# Altium footprint library PcbLib1.PcbLib: 19 footprints (part 1 of 2)
Each footprint in its own frame and in the unit in brackets; x right, y up, seen from the top. Pads: shape width x height; smd on the part's side, far side on the other; paste and mask are expansions set on the pad; w line width, h text height; cw(c..) or ccw(c..) is an arc to the next point about the centre after c.
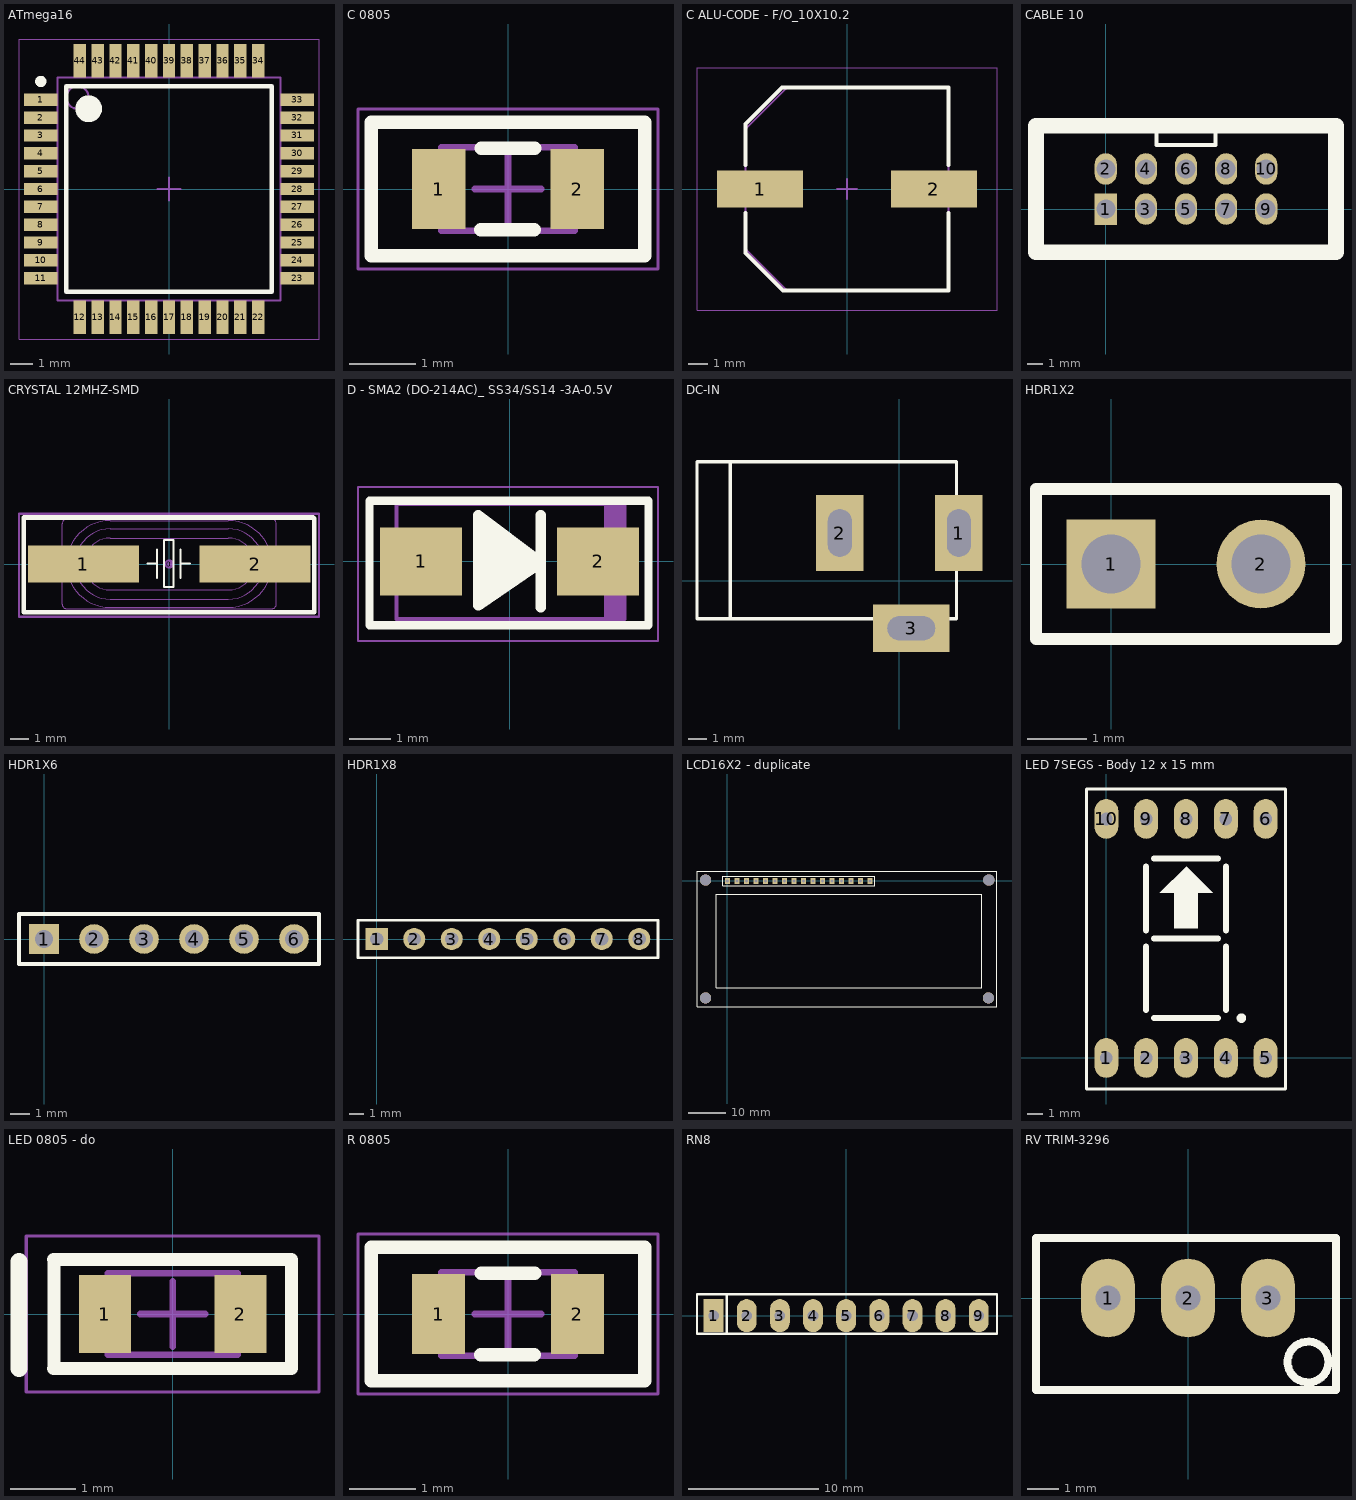
[diagram p0: the footprints below, top view; thin cyan lines are the x and y axes]

## ATmega16 [mm] "TQFP, 44-Leads, Body 10.00x10.00mm, Pitch 0.80mm, IPC Medium Density"
height 1.2
pads (44):
  rect 1.5x0.55 smd: 1(-5.75,4) 2(-5.75,3.2) 3(-5.75,2.4) 4(-5.75,1.6) 5(-5.75,0.8) 6(-5.75,0) 7(-5.75,-0.8) 8(-5.75,-1.6) 9(-5.75,-2.4) 10(-5.75,-3.2) 11(-5.75,-4) 23(5.75,-4) 24(5.75,-3.2) 25(5.75,-2.4) 26(5.75,-1.6) 27(5.75,-0.8) 28(5.75,0) 29(5.75,0.8) 30(5.75,1.6) 31(5.75,2.4) 32(5.75,3.2) 33(5.75,4)
  rect 0.55x1.5 smd: 12(-4,-5.75) 13(-3.2,-5.75) 14(-2.4,-5.75) 15(-1.6,-5.75) 16(-0.8,-5.75) 17(0,-5.75) 18(0.8,-5.75) 19(1.6,-5.75) 20(2.4,-5.75) 21(3.2,-5.75) 22(4,-5.75) 34(4,5.75) 35(3.2,5.75) 36(2.4,5.75) 37(1.6,5.75) 38(0.8,5.75) 39(0,5.75) 40(-0.8,5.75) 41(-1.6,5.75) 42(-2.4,5.75) 43(-3.2,5.75) 44(-4,5.75)
Top Overlay:
  circle w0.25: c-5.75,4.825 r0.125
  circle w0.6: c-3.6,3.6 r0.3
  lines w0.2: -4.6,-4.6 -4.6,4.6 4.6,4.6 4.6,-4.6 -4.6,-4.6
Mechanical 13:
  circle w0.1: c-4.1,4.1 r0.5
  lines w0.1: -5,-5 -5,5 5,5 5,-5 -5,-5
Mechanical 15:
  lines w0.05: -6.725,-6.725 -6.725,6.725 6.725,6.725 6.725,-6.725 -6.725,-6.725
  lines w0.1: -0.5,0 0.5,0 ; 0,-0.5 0,0.5
3D body "TQFP80P1200X1200X120-44N.step": height 1.2, standoff 0, extent -6,-6 6,6

## C 0805 [mm]
pads (2):
  rect 0.8x1.2 smd: 1(-1.041,0) 2(1.041,0)
Top Overlay:
  lines w0.2: -0.406,-0.61 0.394,-0.61 ; -0.4,0.61 0.4,0.61 ; -2.05,-1 2.05,-1 2.05,1 -2.05,1 -2.05,0 -2.05,-1
Mechanical 13:
  lines w0.1: -1,-0.625 1,-0.625 1,0.625 -1,0.625 -1,-0.625
Mechanical 15:
  lines w0.05: -2.25,-1.2 2.25,-1.2 2.25,1.2 -2.25,1.2 -2.25,-1.2
  lines w0.1: -0.5,0 0.5,0 ; 0,-0.5 0,0.5
3D body "C0805.STEP": height 0.5, standoff 0, extent -1,-0.61 1,0.59

## C ALU-CODE - F/O_10X10.2 [mm]
pads (2):
  rect 4.35x1.85 smd: 1(-4.4,0) 2(4.4,0)
Top Overlay:
  lines w0.2: -5.15,-1.225 -5.15,-3.232 -3.232,-5.15 5.15,-5.15 5.15,-1.225 ; -5.15,1.225 -5.15,3.283 -3.283,5.15 5.15,5.15 5.15,1.225
Mechanical 13:
  lines w0.1: -5.15,-3.037 -5.15,3.037 -3.037,5.15 5.15,5.15 5.15,-5.15 -3.037,-5.15 -5.15,-3.037
Mechanical 15:
  lines w0.05: -7.6,-6.15 7.6,-6.15 7.6,6.15 -7.6,6.15 -7.6,-6.15
  lines w0.1: -0.5,0 0.5,0 ; 0,-0.5 0,0.5
3D body "User Library-SMD Polymer Aluminum Electrolytic Capacitors F12 560uF 10V.STEP": height 11.1, standoff -0.05, extent -5.5,-5.15 5.5,5.15

## CABLE 10 [mm]
pads (10):
  rect 1.4x2 hole 1.2: 1(0,0)
  oval 1.4x2 hole 1.2: 2(0,2.54) 3(2.54,0) 4(2.54,2.54) 5(5.08,0) 6(5.08,2.54) 7(7.62,0) 8(7.62,2.54) 9(10.16,0) 10(10.16,2.54)
Top Overlay:
  lines w0.254: 3.226,5.27 3.226,4.064 5.08,4.064 6.934,4.064 6.934,5.27
  lines w1: -4.42,-2.73 14.58,-2.73 14.58,5.27 -4.42,5.27 -4.42,-2.73
3D body "User Library-Tyco - 5103308-1 (Shrouded Header 2_54mm 10 Pin).step": height 9.86, standoff -3.05, extent -5.08,-3.302 15.24,5.842

## CRYSTAL 12MHZ-SMD [mm]
pads (3):
  round 0.508 on Mech15: 0(0,0)
  rect 6x2 smd: 1(-4.648,0) 2(4.648,0)
Top Overlay:
  lines w0.127: -1.168,0.025 -0.66,0.025 ; -0.66,-0.737 -0.66,0.787 ; 0.61,-0.737 0.61,0.787 ; 0.61,0.025 1.118,0.025 ; -0.279,-1.245 -0.279,1.295 0.229,1.295 0.229,-1.245 -0.279,-1.245
  lines w0.254: -7.874,-2.616 7.849,-2.616 7.849,2.464 7.798,2.515 -7.874,2.515 -7.874,-2.616
Mechanical 13:
  lines w0.05: -5.8,-0.45 -6.4,-0.45 -6.4,0.45 -5.8,0.45 ; 5.8,-0.45 6.4,-0.45 6.4,0.45 5.8,0.45 ; -5.8,-2.165 ccw(c-5.55,-2.165) -5.55,-2.415 5.55,-2.415 ccw(c5.55,-2.165) 5.8,-2.165 5.8,2.165 ccw(c5.55,2.165) 5.55,2.415 -5.55,2.415 ccw(c-5.55,2.165) -5.8,2.165 -5.8,-2.165 ; -3.2,-2.35 cw(c-3.2,0) -3.2,2.35 3.2,2.35 cw(c3.2,0) 3.2,-2.35 -3.2,-2.35 ; -3.2,-1.9 cw(c-3.2,0) -3.2,1.9 3.2,1.9 cw(c3.2,0) 3.2,-1.9 -3.2,-1.9 ; -3.2,-1.4 cw(c-3.2,0) -3.2,1.4 3.2,1.4 cw(c3.2,0) 3.2,-1.4 -3.2,-1.4
Mechanical 15:
  lines w0.127: -8.128,-2.845 -8.128,2.718 8.103,2.718 8.103,-2.845 -8.128,-2.845
3D body "User Library-Crystal HC49_US-SM.STEP": height 4.3, standoff 0, extent -6.425,-2.491 6.375,2.339

## D - SMA2 (DO-214AC)_ SS34/SS14 -3A-0.5V [mm]
pads (2):
  rect 2x1.65 smd: 1(-2.15,0) 2(2.15,0)
Top Overlay:
  lines w0.2: -3.404,-1.549 3.378,-1.549 3.378,1.473 -3.404,1.473 -3.404,-0.913 -3.404,-1.549
  lines w0.254: -0.635,0.737 0.457,-0.051 -0.584,-0.737 -0.559,0.533 0.178,-0.102 -0.457,-0.356 ; -0.356,0.305 -0.432,-0.584 -0.051,0.254 ; 0.762,-1.118 0.762,1.118 ; -0.762,-1.067 -0.711,-1.041 0.762,-0.025 -0.762,1.118 -0.762,-1.067
Mechanical 13:
  rectangle: 2.298,-1.403 2.769,1.397
  lines w0.1: -2.743,-1.4 -2.743,1.4 2.794,1.4 2.794,-1.4 -2.743,-1.4
Mechanical 15:
  lines w0.05: -3.683,-1.93 -3.683,1.803 3.607,1.803 3.607,-1.93 -3.683,-1.93
  lines w0.1: -0.5,0 0.5,0 ; 0,-0.5 0,0.5
3D body "User Library-DO-214AC.STEP": height 2.6, standoff 0.03, extent -2.75,-1.428 2.75,1.372

## DC-IN [mil]
pads (3):
  rect 100x160 hole 50 slot 100 at 90 deg: 1(125,100) 2(-125,100)
  rect 160x100 hole 50 slot 100 at 0 deg: 3(25,-100)
Top Overlay:
  lines w7: -355,-80 -355,250 ; -425,-80 -425,250 120,250 120,-80 -425,-80
3D body "SW3dPS-dc range - dc connector[4840.2201].STEP": height 433.67, standoff -137.2, extent -410.35,-105.12 134,269.12

## HDR1X2 [mm]
pads (2):
  rect 1.5x1.5 hole 1: 1(0,0)
  round 1.5 hole 1: 2(2.54,0)
Top Overlay:
  lines w0.2: -1.27,-1.27 -1.27,1.27 3.81,1.27 3.81,-1.27 -1.27,-1.27
3D body: height 1.5, standoff 0, extent 1.27,-1.27 3.81,1.27
3D body: height 7, standoff -1, extent 2.134,-0.406 2.93,0.392
3D body: height 7, standoff -1, extent -0.406,-0.406 0.39,0.392
3D body: height 1.5, standoff 0, extent -1.27,-1.27 1.27,1.27

## HDR1X6 [mm]
pads (6):
  rect 1.5x1.5 hole 0.9: 1(0,0)
  round 1.5 hole 0.9: 2(2.54,0) 3(5.08,0) 4(7.62,0) 5(10.16,0) 6(12.7,0)
Top Overlay:
  lines w0.2: -1.27,-1.27 13.97,-1.27 13.97,1.27 -1.27,1.27 -1.27,-1.27
3D body: height 7, standoff -1, extent 12.294,-0.406 13.09,0.392
3D body: height 1.5, standoff 0, extent 11.43,-1.27 13.97,1.27
3D body: height 7, standoff -1, extent -0.406,-0.406 0.39,0.392
3D body: height 1.5, standoff 0, extent -1.27,-1.27 1.27,1.27
3D body: height 7, standoff -1, extent 2.134,-0.406 2.93,0.392
3D body: height 1.5, standoff 0, extent 1.27,-1.27 3.81,1.27
3D body: height 7, standoff -1, extent 4.674,-0.406 5.47,0.392
3D body: height 1.5, standoff 0, extent 3.81,-1.27 6.35,1.27
3D body: height 7, standoff -1, extent 7.214,-0.406 8.01,0.392
3D body: height 1.5, standoff 0, extent 6.35,-1.27 8.89,1.27
3D body: height 7, standoff -1, extent 9.754,-0.406 10.55,0.392
3D body: height 1.5, standoff 0, extent 8.89,-1.27 11.43,1.27

## HDR1X8 [mm]
pads (8):
  rect 1.5x1.5 hole 0.9: 1(0,0)
  round 1.5 hole 0.9: 2(2.54,0) 3(5.08,0) 4(7.62,0) 5(10.16,0) 6(12.7,0) 7(15.24,0) 8(17.78,0)
Top Overlay:
  lines w0.2: -1.27,-1.27 19.05,-1.27 19.05,1.27 -1.27,1.27 -1.27,-1.27
3D body: height 1.5, standoff 0, extent 8.89,-1.27 11.43,1.27
3D body: height 7, standoff -1, extent 9.754,-0.406 10.55,0.392
3D body: height 1.5, standoff 0, extent 6.35,-1.27 8.89,1.27
3D body: height 7, standoff -1, extent 7.214,-0.406 8.01,0.392
3D body: height 1.5, standoff 0, extent 3.81,-1.27 6.35,1.27
3D body: height 7, standoff -1, extent 4.674,-0.406 5.47,0.392
3D body: height 1.5, standoff 0, extent 1.27,-1.27 3.81,1.27
3D body: height 7, standoff -1, extent 2.134,-0.406 2.93,0.392
3D body: height 1.5, standoff 0, extent -1.27,-1.27 1.27,1.27
3D body: height 7, standoff -1, extent -0.406,-0.406 0.39,0.392
3D body: height 1.5, standoff 0, extent 16.51,-1.27 19.05,1.27
3D body: height 7, standoff -1, extent 17.374,-0.406 18.17,0.392
3D body: height 1.5, standoff 0, extent 13.97,-1.27 16.51,1.27
3D body: height 7, standoff -1, extent 14.834,-0.406 15.63,0.392
3D body: height 1.5, standoff 0, extent 11.43,-1.27 13.97,1.27
3D body: height 7, standoff -1, extent 12.294,-0.406 13.09,0.392

## LCD16X2 - duplicate [mm]
pads (20):
  rect 1.3x1.6 hole 0.9: 1(0,0) 2(2.54,0) 3(5.08,0) 4(7.62,0) 5(10.16,0) 6(12.7,0) 7(15.24,0) 8(17.78,0) 9(20.32,0) 10(22.86,0) 11(25.4,0) 12(27.94,0) 13(30.48,0) 14(33.02,0) 15(35.56,0) 16(38.1,0)
  round 3 hole 3: ""(-5.842,-31.242) ""(69.723,-31.242)
  round 3 hole 3 paste+0 mask+0: ""(-5.842,0.254) ""(69.825,0.254)
Top Overlay:
  lines w0.2: -1.27,-1.27 39.37,-1.27 39.37,1.27 0.635,1.27 -1.27,1.27 -1.27,-1.27
  lines w0.254: 71.882,-33.528 -8.128,-33.528 -8.128,2.54 71.882,2.54 ; 72.009,-33.528 72.009,2.54 ; -3.001,-28.528 -3.001,-3.528 67.999,-3.528 67.999,-28.528 -3.001,-28.528
3D body: height 1.5, standoff 0, extent 8.89,-1.27 11.43,1.27
3D body: height 7, standoff -1, extent 9.754,-0.406 10.55,0.392
3D body: height 1.5, standoff 0, extent 6.35,-1.27 8.89,1.27
3D body: height 7, standoff -1, extent 7.214,-0.406 8.01,0.392
3D body: height 1.5, standoff 0, extent 3.81,-1.27 6.35,1.27
3D body: height 7, standoff -1, extent 4.674,-0.406 5.47,0.392
3D body: height 1.5, standoff 0, extent 1.27,-1.27 3.81,1.27
3D body: height 7, standoff -1, extent 2.134,-0.406 2.93,0.392
3D body: height 1.5, standoff 0, extent -1.27,-1.27 1.27,1.27
3D body: height 7, standoff -1, extent -0.406,-0.406 0.39,0.392
3D body: height 1.5, standoff 0, extent 21.59,-1.27 24.13,1.27
3D body: height 7, standoff -1, extent 22.454,-0.406 23.25,0.392
3D body: height 1.5, standoff 0, extent 19.05,-1.27 21.59,1.27
3D body: height 7, standoff -1, extent 19.914,-0.406 20.71,0.392
3D body: height 1.5, standoff 0, extent 16.51,-1.27 19.05,1.27
3D body: height 7, standoff -1, extent 17.374,-0.406 18.17,0.392
3D body: height 1.5, standoff 0, extent 13.97,-1.27 16.51,1.27
3D body: height 7, standoff -1, extent 14.834,-0.406 15.63,0.392
3D body: height 1.5, standoff 0, extent 11.43,-1.27 13.97,1.27
3D body: height 7, standoff -1, extent 12.294,-0.406 13.09,0.392
3D body: height 1.5, standoff 0, extent 34.29,-1.27 36.83,1.27
3D body: height 7, standoff -1, extent 35.154,-0.406 35.95,0.392
3D body: height 1.5, standoff 0, extent 31.75,-1.27 34.29,1.27
3D body: height 7, standoff -1, extent 32.614,-0.406 33.41,0.392
3D body: height 1.5, standoff 0, extent 29.21,-1.27 31.75,1.27
3D body: height 7, standoff -1, extent 30.074,-0.406 30.87,0.392
3D body: height 1.5, standoff 0, extent 26.67,-1.27 29.21,1.27
3D body: height 7, standoff -1, extent 27.534,-0.406 28.33,0.392
3D body: height 1.5, standoff 0, extent 24.13,-1.27 26.67,1.27
3D body: height 7, standoff -1, extent 24.994,-0.406 25.79,0.392
3D body: height 1.5, standoff 0, extent 36.83,-1.27 39.37,1.27
3D body: height 7, standoff -1, extent 37.694,-0.406 38.49,0.392
3D body "User Library-LCD16x02.step": height 19, standoff 5.1, extent -8,-33.5 72,2.5

## LED 7SEGS - Body 12 x 15 mm [mil]
pads (10):
  oval 60x100 hole 32: 1(0,0) 2(100,0) 3(200,0) 4(300,0) 5(400,0) 6(400,600) 7(300,600) 8(200,600) 9(100,600) 10(0,600)
Top Overlay:
  circle w12: c339,100 r6
  region: 134,414 200,480 202,480 267,415 267,414 230,414 230,326 171,326 171,414
  lines w7: -50,-78 -50,675 450,675 450,-78 -50,-78
  lines w15: 100,120 100,280 ; 100,120 100,280 ; 100,120 100,280 ; 100,120 100,280 ; 100,120 100,280 ; 100,120 100,280 ; 100,120 100,280 ; 100,120 100,280 ; 100,320 100,480 ; 100,320 100,480 ; 100,320 100,480 ; 100,320 100,480 ; 100,320 100,480 ; 100,320 100,480 ; 100,320 100,480 ; 100,320 100,480 ; 120,100 280,100 ; 120,100 280,100 ; 120,100 280,100 ; 120,100 280,100 ; 120,300 280,300 ; 120,300 280,300 ; 120,300 280,300 ; 120,300 280,300 ; 120,300 280,300 ; 120,300 280,300 ; 120,300 280,300 ; 120,300 280,300 ; 120,500 280,500 ; 120,500 280,500 ; 120,500 280,500 ; 120,500 280,500 ; 300,120 300,280 ; 300,120 300,280 ; 300,120 300,280 ; 300,120 300,280 ; 300,120 300,280 ; 300,120 300,280 ; 300,120 300,280 ; 300,120 300,280 ; 300,320 300,480 ; 300,320 300,480 ; 300,320 300,480 ; 300,320 300,480 ; 300,320 300,480 ; 300,320 300,480 ; 300,320 300,480 ; 300,320 300,480
3D body "SW3dPS-Disp_SA56-11.STEP": height 316.25, standoff -156.19, extent -50,-75 450,675

## LED 0805 - do [mm]
pads (2):
  rect 0.8x1.2 smd: 1(-1.041,0) 2(1.041,0)
Top Overlay:
  lines w0.2: -1.829,-0.838 1.829,-0.838 1.829,0.838 -1.829,0.838 ; -1.821,-0.838 -1.821,0 -1.821,0.838
  lines w0.254: -2.362,-0.838 -2.362,0.813
Mechanical 13:
  lines w0.1: -1,-0.625 1,-0.625 1,0.625 -1,0.625 -1,-0.625
Mechanical 15:
  lines w0.05: -2.25,-1.2 2.25,-1.2 2.25,1.2 -2.25,1.2 -2.25,-1.2
  lines w0.1: -0.5,0 0.5,0 ; 0,-0.5 0,0.5
3D body "User Library-CHIPLED-0805.STEP": height 0.9, standoff -0.01, extent -1.075,-0.675 1.025,0.675

## R 0805 [mm]
pads (2):
  rect 0.8x1.2 smd: 1(-1.041,0) 2(1.041,0)
Top Overlay:
  lines w0.2: -0.406,-0.61 0.394,-0.61 ; -0.4,0.61 0.4,0.61 ; -2.05,-1 -2.05,0 -2.05,1 2.05,1 2.05,-1 -2.05,-1
Mechanical 13:
  lines w0.1: -1,-0.625 -1,0.625 1,0.625 1,-0.625 -1,-0.625
Mechanical 15:
  lines w0.05: -2.25,-1.2 -2.25,1.2 2.25,1.2 2.25,-1.2 -2.25,-1.2
  lines w0.1: -0.5,0 0.5,0 ; 0,-0.5 0,0.5
3D body "R0805.STEP": height 0.5, standoff 0, extent -1,-0.61 1,0.59

## RN8 [mil]
pads (9):
  rect 60x100 hole 32: 1(-400,0)
  oval 60x100 hole 32: 2(-300,0) 3(-200,0) 4(-100,0) 5(0,0) 6(100,0) 7(200,0) 8(300,0) 9(400,0)
Top Overlay:
  lines w7: -360,-55 -360,65 ; -450,-55 455,-55 455,65 -450,65 -450,-55
3D body "SW3dPS-Resistor Networks-1.STEP": height 259.29, standoff -75.35, extent -440,-24.6 445.83,24.61

## RV TRIM-3296 [mm]
pads (3):
  oval 1.7x2.5 hole 0.8: 1(-2.54,0) 2(0,0) 3(2.54,0)
Top Overlay:
  circle w0.254: c3.81,-2.032 r0.648
  lines w0.254: -4.826,-2.921 4.699,-2.921 4.699,1.905 -4.826,1.905 -4.826,-2.921
3D body "VR_3296.STEP": height 11.52, standoff -1.5, extent -4.826,-2.923 4.704,1.907